# Altium integrated library TPS54360DDA.IntLib: 1 symbol
Pins are listed as number, name and electrical type; pins without a type are passive.

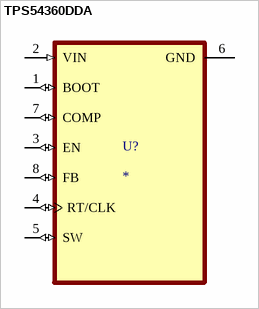
[diagram p0: symbol TPS54360DDA]

## TPS54360DDA
designator U?
4.5V to 60 V Input, 3.5 A Step-Down Converter with Eco-mode 8-SO PowerPAD -40 to 125; MF: Texas Instruments; MP: TPS54360DDA; Price: None; Purchase-URL: https://pricing.snapeda.com/search/part/TPS54360DDA/?ref=eda; Availability: In Stock; SnapEDA_Link: https://www.snapeda.com/parts/TPS54360DDA/Texas+Instruments/view-part/?ref=snap; Value: *; Package: HSOIC-8 Texas Instruments; Check_prices: https://www.snapeda.com/parts/TPS54360DDA/Texas+Instruments/view-part/?ref=eda
footprint VREG_LM5017MR/NOPB
pins: 1 BOOT (io), 2 VIN (in), 3 EN (io), 4 RT/CLK (io), 5 SW (io), 6 GND (power), 7 COMP (io), 8 FB (io)